# EAGLE library part SG2525/3525 (library st-microelectronics)
The SG3525A series of pulse width modulator integrated circuits are designed to offer improved performance and lowered external parts count when used in designing all types of switching power supplies. The on-chip + 5.1 V reference is trimmed to ± 1 % and the input common-mode range of the error amplifier includes the reference voltage eliminating external resistors. A sync input to the oscillator allows multiple units to be slaved or a single unit to be synchronized to an external system clock. A single resistor between the CT and the discharge terminals provide a wide range of dead time ad- justment. These devices also feature built-in soft-start circuitry with only an external timing capacitor required. A shutdown terminal controls both the soft-start circuity and the output stages, providing instantaneous turn off through the PWM latch with pulsed shutdown, as well as soft-start recycle with longer shutdown commands. These functions are also controlled by an undervoltage lockout which keeps the outputs off and the soft-start capacitor discharged for sub-normal input voltages. This lockout circuitry includes approximately 500 mV of hysteresis for jitterfree operation. Another feature of these PWM circuits is a latch following the comparator. Once a PWM pulses has been terminated for any reason, the outputs will remain off for the duration of the period. The latch is reset with each clock pulse. The output stages are totem-pole designs capable of sourcing or sinking in excess of 200 mA. The SG3525A output stage features NOR logic, giving a LOW output for an OFF state.
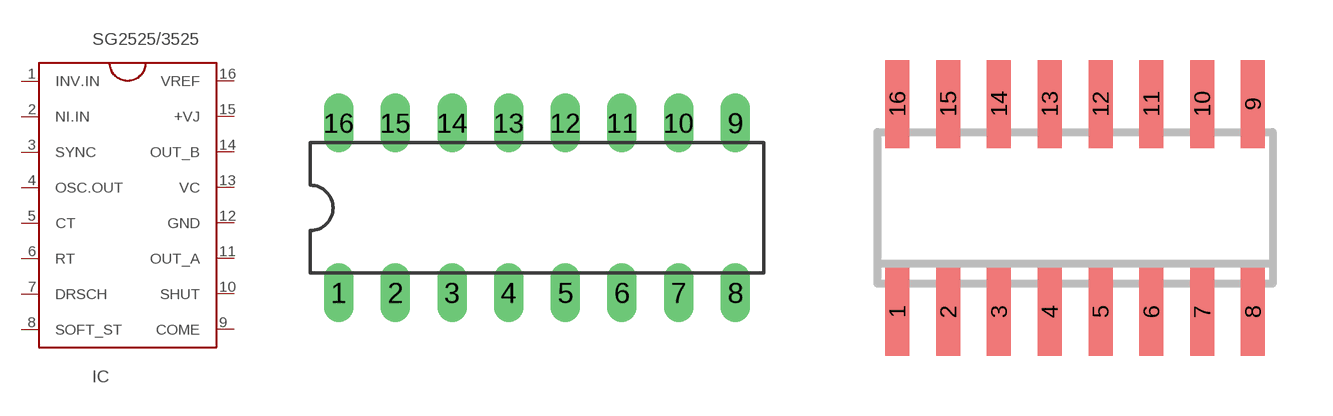
[diagram p57: symbol with the pads of DIL16; footprints DIL16, SO16_NARROW]

Designator prefix IC

## SG2525/3525  [DIL16]
1  INV.IN  in
2  NI.IN  in
3  SYNC
4  OSC.OUT  out
5  CT
6  RT
7  DRSCH
8  SOFT_ST
9  COME
10  SHUT
11  OUT_A  out
12  GND  pwr
13  VC  pwr
14  OUT_B  out
15  +VJ  pwr
16  VREF

## SG2525/3525SO16N  [SO16_NARROW]
Pads as for DIL16

## Footprint DIL16 (pad centres in mm)
Dual In Line Package
drill 0.813 long: 1 -8.89,-3.81; 2 -6.35,-3.81; 3 -3.81,-3.81; 4 -1.27,-3.81; 5 1.27,-3.81; 6 3.81,-3.81; 7 6.35,-3.81; 8 8.89,-3.81; 9 8.89,3.81; 10 6.35,3.81; 11 3.81,3.81; 12 1.27,3.81; 13 -1.27,3.81; 14 -3.81,3.81; 15 -6.35,3.81; 16 -8.89,3.81

## Footprint SO16_NARROW (pad centres in mm)
SMALL OUTLINE INTEGRATED CIRCUIT body 3.9 mm/JEDEC MS-012AC
smd 0.6 x 2.2: 1 -4.445,-2.6; 2 -3.175,-2.6; 3 -1.905,-2.6; 4 -0.635,-2.6; 5 0.635,-2.6; 6 1.905,-2.6; 7 3.175,-2.6; 8 4.445,-2.6; 9 4.445,2.6; 10 3.175,2.6; 11 1.905,2.6; 12 0.635,2.6; 13 -0.635,2.6; 14 -1.905,2.6; 15 -3.175,2.6; 16 -4.445,2.6